# Altium footprint library MPUpcb.PcbLib: 2 footprints
Each footprint in its own frame and in the unit in brackets; x right, y up, seen from the top. Pads: shape width x height; smd on the part's side, far side on the other; paste and mask are expansions set on the pad; w line width, h text height; cw(c..) or ccw(c..) is an arc to the next point about the centre after c.
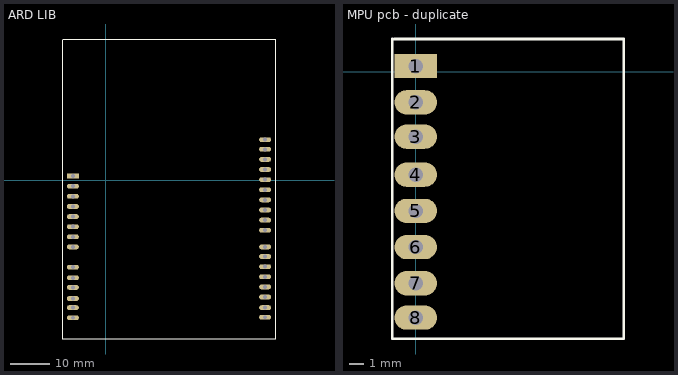
[diagram p0: the footprints below, top view; thin cyan lines are the x and y axes]

## ARD LIB [mm]
pads (32):
  rect 3x1.2 hole 1: 1(-8.255,1.016)
  oval 3x1.2 hole 1: 2(-8.255,-1.524) 3(-8.255,-4.064) 4(-8.255,-6.604) 5(-8.255,-9.144) 6(-8.255,-11.684) 7(-8.255,-14.224) 8(-8.255,-16.764) 9(-8.255,-21.844) 10(-8.255,-24.511) 11(-8.255,-26.924) 12(-8.255,-29.718) 13(-8.255,-32.004) 14(-8.255,-34.544) 15(40.005,-32.004) 16(40.005,-34.417) 17(40.005,-29.337) 18(40.005,-26.797) 19(40.005,-24.257) 20(40.005,-21.717) 21(40.005,-19.177) 22(40.005,-16.764) 23(40.005,-12.573) 24(40.005,-10.033) 25(40.005,-7.493) 26(40.005,-4.953) 27(40.005,-2.413) 28(40.005,0.127) 29(40.005,2.667) 30(40.005,5.207) 31(40.005,7.747) 32(40.005,10.16)
Top Overlay:
  lines w0.2: -10.922,35.306 -10.922,-39.878 42.672,-39.878 42.672,35.433 -10.668,35.433
3D body "UNO_PCB.step": height 2.75, standoff -13.44, extent -10.922,-39.764 42.673,35.446

## MPU pcb - duplicate [mm]
pads (8):
  rect 3x1.7 hole 1: 1(0,0.381)
  oval 3x1.7 hole 1: 2(0,-2.159) 3(0,-4.572) 4(0,-7.239) 5(0,-9.779) 6(0,-12.319) 7(0,-14.859) 8(0,-17.272)
Top Overlay:
  lines w0.2: -1.651,2.286 -1.651,-18.75 14.605,-18.75 14.605,2.286 -1.524,2.286
3D body "MPU-6050-on-female-header.step": height 14.61, standoff -2.95, extent -1.27,-19.19 14.605,1.918